# Altium footprint library PCB - POWER INDUCTORS - WURTH WE-HCI 1335.PcbLib: 1 footprints
Each footprint in its own frame and in the unit in brackets; x right, y up, seen from the top. Pads: shape width x height; smd on the part's side, far side on the other; paste and mask are expansions set on the pad; w line width, h text height; cw(c..) or ccw(c..) is an arc to the next point about the centre after c.
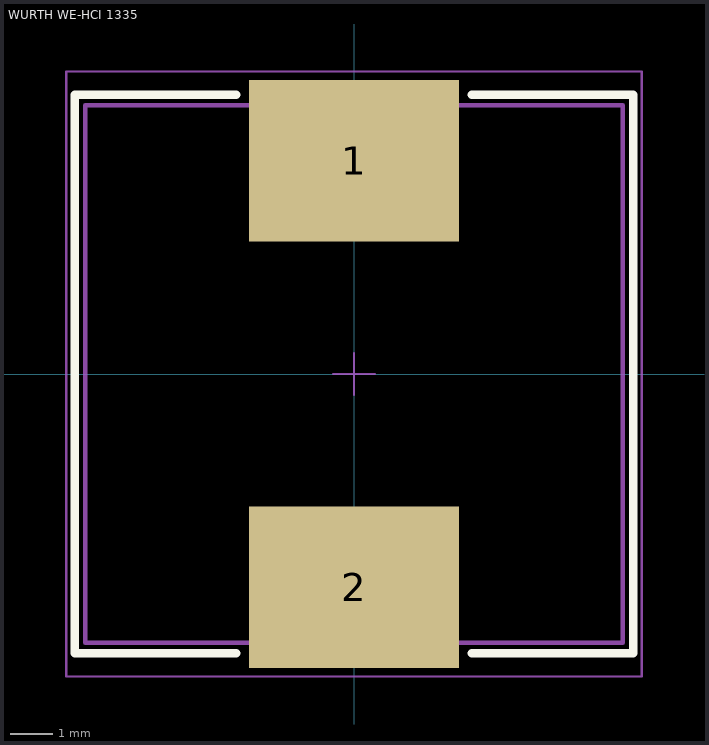
[diagram p0: the footprint, top view; thin cyan lines are the x and y axes]

## WURTH WE-HCI 1335 [mm] "SMT Flat Wire High Current Inductor, body 12.8x12.8mm"
height 3.3
pads (2):
  rect 5x3.85 smd: 1(0,5.075) 2(0,-5.075)
Top Overlay:
  lines w0.2: -2.8,-6.65 -6.65,-6.65 -6.65,6.65 -2.8,6.65 ; 2.8,-6.65 6.65,-6.65 6.65,6.65 2.8,6.65
Top Assembly:
  lines w0.1: -6.4,-6.4 -6.4,6.4 6.4,6.4 6.4,-6.4 -6.4,-6.4
Top Component Outline:
  lines w0.1: -6.4,-6.4 -6.4,6.4 6.4,6.4 6.4,-6.4 -6.4,-6.4
Top Courtyard:
  lines w0.05: -0.5,0 0.5,0 ; 0,-0.5 0,0.5 ; -6.85,-7.2 -6.85,7.2 6.85,7.2 6.85,-7.2 -6.85,-7.2
3D body "744313xxx.stp": height 3.5, standoff 0, extent -6.4,-6.45 6.4,6.45